# Altium footprint library MYLIB.PcbLib: 43 footprints (part 3 of 3)
Each footprint in its own frame and in the unit in brackets; x right, y up, seen from the top. Pads: shape width x height; smd on the part's side, far side on the other; paste and mask are expansions set on the pad; w line width, h text height; cw(c..) or ccw(c..) is an arc to the next point about the centre after c.
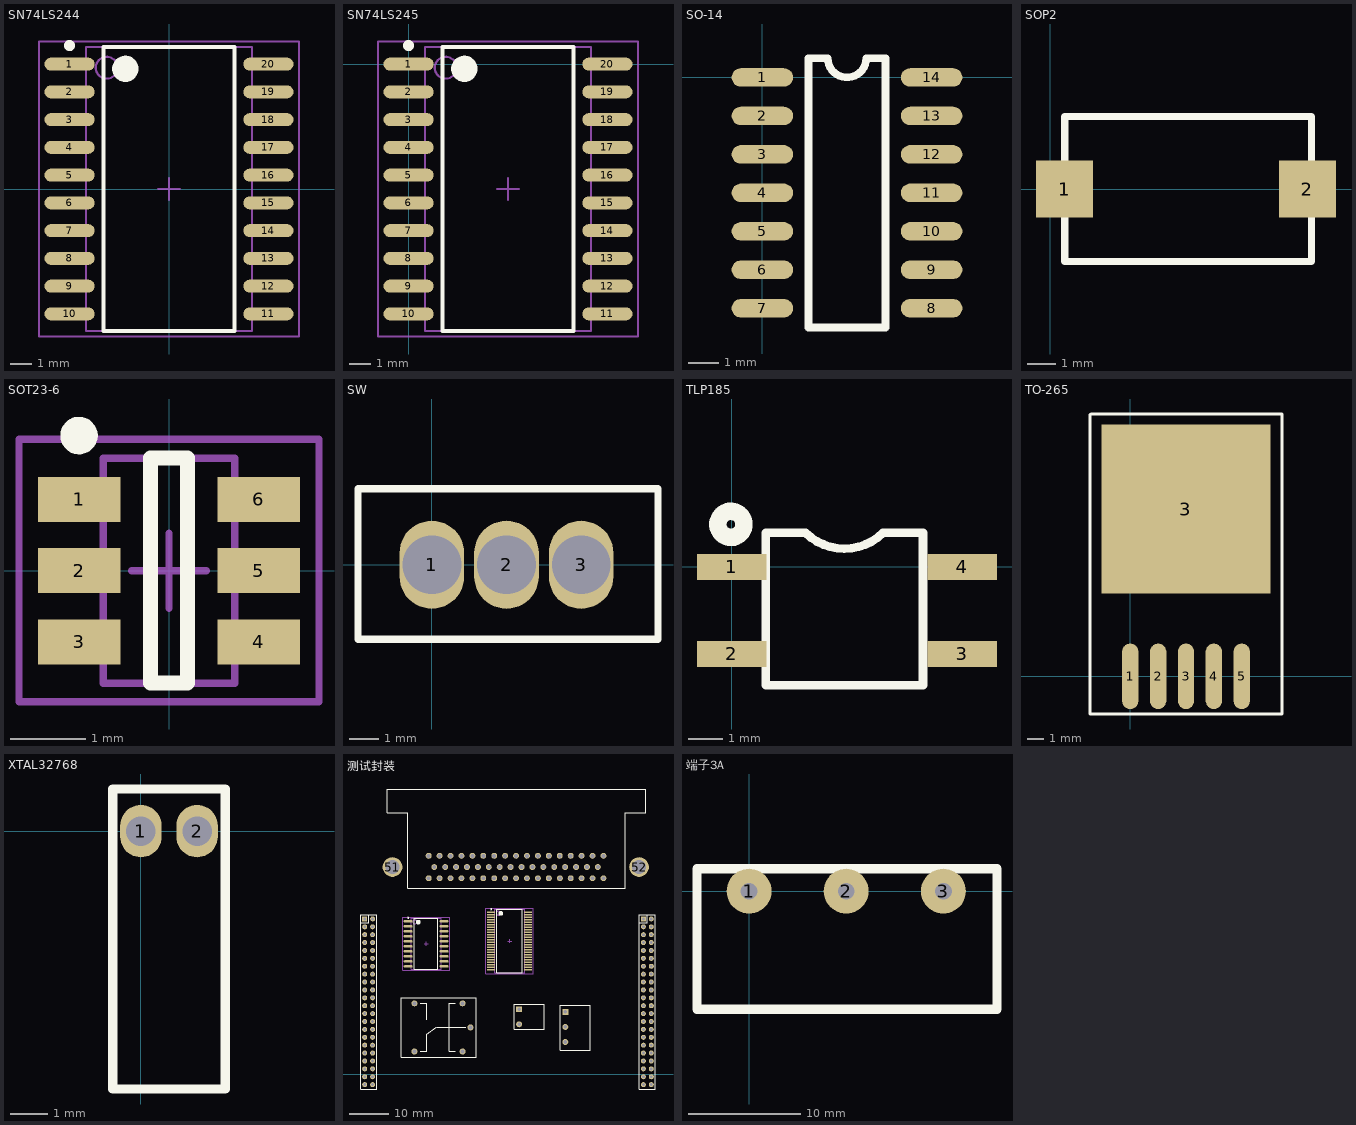
[diagram p2: the footprints below, top view; thin cyan lines are the x and y axes]

## SN74LS244 [mm]
height 2.65
pads (20):
  oval 2.3x0.6 smd: 1(-4.55,5.715) 2(-4.55,4.445) 3(-4.55,3.175) 4(-4.55,1.905) 5(-4.55,0.635) 6(-4.55,-0.635) 7(-4.55,-1.905) 8(-4.55,-3.175) 9(-4.55,-4.445) 10(-4.55,-5.715) 11(4.55,-5.715) 12(4.55,-4.445) 13(4.55,-3.175) 14(4.55,-1.905) 15(4.55,-0.635) 16(4.55,0.635) 17(4.55,1.905) 18(4.55,3.175) 19(4.55,4.445) 20(4.55,5.715)
Top Overlay:
  circle w0.25: c-4.55,6.565 r0.125
  circle w0.6: c-2,5.5 r0.3
  lines w0.2: -3,-6.5 -3,6.5 3,6.5 3,-6.5 -3,-6.5
Mechanical 13:
  circle w0.1: c-2.85,5.55 r0.5
  lines w0.1: -3.8,-6.5 -3.8,6.5 3.8,6.5 3.8,-6.5 -3.8,-6.5
Mechanical 15:
  lines w0.1: -0.5,0 0.5,0 ; 0,-0.5 0,0.5 ; -5.95,-6.75 -5.95,6.75 5.95,6.75 5.95,-6.75 -5.95,-6.75
3D body: height 2.65, standoff 0.1, extent -3.8,-6.5 3.8,6.5

## SN74LS245 [mm]
height 2
pads (20):
  oval 2.3x0.6 smd: 1(0,0) 2(0,-1.27) 3(0,-2.54) 4(0,-3.81) 5(0,-5.08) 6(0,-6.35) 7(0,-7.62) 8(0,-8.89) 9(0,-10.16) 10(0,-11.43) 11(9.1,-11.43) 12(9.1,-10.16) 13(9.1,-8.89) 14(9.1,-7.62) 15(9.1,-6.35) 16(9.1,-5.08) 17(9.1,-3.81) 18(9.1,-2.54) 19(9.1,-1.27) 20(9.1,0)
Top Overlay:
  circle w0.6: c2.55,-0.215 r0.3
  circle w0.25: c0,0.85 r0.125
  lines w0.2: 1.55,-12.215 7.55,-12.215 7.55,0.785 1.55,0.785 1.55,-12.215
Mechanical 13:
  circle w0.1: c1.7,-0.165 r0.5
  lines w0.1: 0.75,-12.215 8.35,-12.215 8.35,0.785 0.75,0.785 0.75,-12.215
Mechanical 15:
  lines w0.1: 4.05,-5.715 5.05,-5.715 ; 4.55,-6.215 4.55,-5.215 ; -1.4,-12.465 10.5,-12.465 10.5,1.035 -1.4,1.035 -1.4,-12.465
3D body: height 2.65, standoff 0.1, extent 0.75,-12.215 8.35,0.785

## SO-14 [mil]
pads (14):
  oval 80x24 smd: 1(0,0) 2(0,-50) 3(0,-100) 4(0,-150) 5(0,-200) 6(0,-250) 7(0,-300) 8(220,-300) 9(220,-250) 10(220,-200) 11(220,-150) 12(220,-100) 13(220,-50) 14(220,0)
Top Overlay:
  lines w10: 60,-325 60,25 85,25 ccw(c110,25) 135,25 160,25 160,-325 60,-325

## SOP2 [mm]
pads (2):
  rect 2x2 smd: 1(0.5,0) 2(9,0)
Top Overlay:
  lines w0.254: 0.508,-1.016 0.508,-2.54 9.144,-2.54 9.144,-1.016 ; 0.508,1.016 0.508,2.54 9.144,2.54 9.144,1.016

## SOT23-6 [mm] "Max4173"
height 1.45
pads (6):
  rect 1.1x0.6 smd: 1(-1.2,0.95) 2(-1.2,0) 3(-1.2,-0.95) 4(1.2,-0.95) 5(1.2,0) 6(1.2,0.95)
Top Overlay:
  circle w0.25: c-1.2,1.8 r0.125
  lines w0.2: -0.25,-1.5 0.25,-1.5 0.25,1.5 -0.25,1.5 -0.25,-1.5
Mechanical 13:
  lines w0.1: -0.875,-1.5 -0.875,1.5 0.875,1.5 0.875,-1.5 -0.875,-1.5
Mechanical 15:
  lines w0.1: -0.5,0 0.5,0 ; 0,-0.5 0,0.5 ; -2,-1.75 -2,1.75 2,1.75 2,-1.75 -2,-1.75
3D body: height 1.45, standoff 0, extent -0.875,-1.5 0.875,1.5

## SW [mm]
pads (3):
  oval 2.2x3 hole 2: 1(0,0) 2(2.54,0) 3(5.08,0)
Top Overlay:
  lines w0.254: -2.515,-2.54 -2.515,2.591 7.696,2.591 7.696,-2.54 -2.515,-2.54

## TLP185 [mil]
pads (4):
  rect 80x30 smd: 1(0,0) 2(0,-100) 3(265,-100) 4(265,0)
Top Overlay:
  circle w20: c-1,49 r15
  lines w10: 39,-136 39,39.37 85,39.37 ccw(c129.5,83.87) 174,39.37 220,39.37 220,-136 40,-136

## TO-265 [mm]
pads (6):
  oval 1x4 smd: 1(0,0) 2(1.7,0) 3(3.4,0) 4(5.1,0) 5(6.8,0)
  rect 10.3x10.3 smd: 3(3.4,10.199)
Top Overlay:
  lines w0.2: -2.45,-2.3 9.25,-2.3 9.25,16 -2.4,16 -2.45,15.95 -2.45,-2.3

## XTAL32768 [mil]
pads (2):
  oval 44.09x55.9 hole 31.49: 1(0,0) 2(60,0)
Top Overlay:
  lines w10: -30,-275 -30,45 90,45 90,-275 -30,-275

## 测试封装 [mm]
pads (218):
  rect 1.27x1.27 hole 0.711: 1(10.3,39.4) 45(80.912,39.4)
  oval 2.3x0.6 smd: 1(21.3,38.8) 2(21.3,37.53) 3(21.3,36.26) 4(21.3,34.99) 5(21.3,33.72) 6(21.3,32.45) 7(21.3,31.18) 8(21.3,29.91) 9(21.3,28.64) 10(21.3,27.37) 11(30.4,27.37) 12(30.4,28.64) 13(30.4,29.91) 14(30.4,31.18) 15(30.4,32.45) 16(30.4,33.72) 17(30.4,34.99) 18(30.4,36.26) 19(30.4,37.53) 20(30.4,38.8)
  round 1.5 hole 1: 1(26.5,49.7) 1(35.1,18) 2(29.269,49.7) 2(37.1,11.9) 3(32.037,49.7) 3(35.1,5.8) 4(22.9,18) 4(34.806,49.7) 5(22.9,5.8) 5(37.574,49.7) 6(40.343,49.7) 7(43.112,49.7) 8(45.88,49.7) 9(48.649,49.7) 10(51.417,49.7) 11(54.186,49.7) 12(56.955,49.7) 13(59.749,49.7) 14(62.492,49.7) 15(65.26,49.7) 16(68.029,49.7) 17(70.798,49.7) 18(27.922,52.545) 19(30.686,52.545) 20(33.449,52.545) 21(36.213,52.545) 22(38.976,52.545) 23(41.74,52.545) 24(44.504,52.545) 25(47.267,52.545) 26(50.031,52.545) 27(52.794,52.545) 28(55.558,52.545) 29(58.321,52.545) 30(61.085,52.545) 31(63.848,52.545) 32(66.612,52.545) 33(69.375,52.545) 34(26.5,55.39) 35(29.269,55.39) 36(32.037,55.39) 37(34.806,55.39) 38(37.574,55.39) 39(40.343,55.39) 40(43.112,55.39) 41(45.88,55.39) 42(48.649,55.39) 43(51.417,55.39) 44(54.186,55.39) 45(56.955,55.39) 46(59.723,55.39) 47(62.492,55.39) 48(65.26,55.39) 49(68.029,55.39) 50(70.798,55.39)
  oval 2.05x0.4 smd: 1(42.325,41.103) 2(42.325,40.468) 3(42.325,39.833) 4(42.325,39.198) 5(42.325,38.563) 6(42.325,37.928) 7(42.325,37.293) 8(42.325,36.658) 9(42.325,36.023) 10(42.325,35.388) 11(42.325,34.753) 12(42.325,34.118) 13(42.325,33.483) 14(42.325,32.848) 15(42.325,32.213) 16(42.325,31.578) 17(42.325,30.943) 18(42.325,30.308) 19(42.325,29.673) 20(42.325,29.038) 21(42.325,28.403) 22(42.325,27.768) 23(42.325,27.133) 24(42.325,26.498) 25(51.675,26.498) 26(51.675,27.133) 27(51.675,27.768) 28(51.675,28.403) 29(51.675,29.038) 30(51.675,29.673) 31(51.675,30.308) 32(51.675,30.943) 33(51.675,31.578) 34(51.675,32.213) 35(51.675,32.848) 36(51.675,33.483) 37(51.675,34.118) 38(51.675,34.753) 39(51.675,35.388) 40(51.675,36.023) 41(51.675,36.658) 42(51.675,37.293) 43(51.675,37.928) 44(51.675,38.563) 45(51.675,39.198) 46(51.675,39.833) 47(51.675,40.468) 48(51.675,41.103)
  rect 1.5x1.5 hole 0.9: 1(49.426,16.502) 1(61.137,15.827)
  round 1.27 hole 0.711: 2(12.3,39.4) 3(10.3,37.4) 4(12.3,37.4) 5(10.3,35.4) 6(12.3,35.4) 7(10.3,33.4) 8(12.3,33.4) 9(10.3,31.4) 10(12.3,31.4) 11(10.3,29.4) 12(12.3,29.4) 13(10.3,27.4) 14(12.3,27.4) 15(10.3,25.4) 16(12.3,25.4) 17(10.3,23.4) 18(12.3,23.4) 19(10.3,21.4) 20(12.3,21.4) 21(10.3,19.4) 22(12.3,19.4) 23(10.3,17.4) 24(12.3,17.4) 25(10.3,15.4) 26(12.3,15.4) 27(10.3,13.4) 28(12.3,13.4) 29(10.3,11.4) 30(12.3,11.4) 31(10.3,9.4) 32(12.3,9.4) 33(10.3,7.4) 34(12.3,7.4) 35(10.3,5.4) 36(12.3,5.4) 37(10.3,3.4) 38(12.3,3.4) 39(10.3,1.4) 40(12.3,1.4) 41(10.3,-0.6) 42(12.3,-0.6) 43(10.3,-2.6) 44(12.3,-2.6) 46(82.912,39.4) 47(80.912,37.4) 48(82.912,37.4) 49(80.912,35.4) 50(82.912,35.4) 51(80.912,33.4) 52(82.912,33.4) 53(80.912,31.4) 54(82.912,31.4) 55(80.912,29.4) 56(82.912,29.4) 57(80.912,27.4) 58(82.912,27.4) 59(80.912,25.4) 60(82.912,25.4) 61(80.912,23.4) 62(82.912,23.4) 63(80.912,21.4) 64(82.912,21.4) 65(80.912,19.4) 66(82.912,19.4) 67(80.912,17.4) 68(82.912,17.4) 69(80.912,15.4) 70(82.912,15.4) 71(80.912,13.4) 72(82.912,13.4) 73(80.912,11.4) 74(82.912,11.4) 75(80.912,9.4) 76(82.912,9.4) 77(80.912,7.4) 78(82.912,7.4) 79(80.912,5.4) 80(82.912,5.4) 81(80.912,3.4) 82(82.912,3.4) 83(80.912,1.4) 84(82.912,1.4) 85(80.912,-0.6) 86(82.912,-0.6) 87(80.912,-2.6) 88(82.912,-2.6)
  round 1.5 hole 0.9: 2(49.426,12.692) 2(61.137,12.017) 3(61.137,8.207)
  round 5 hole 3.5: 51(17.331,52.545) 52(79.815,52.545)
Top Overlay:
  circle w0.6: c23.85,38.585 r0.3
  circle w0.25: c21.3,39.65 r0.125
  circle w0.25: c42.325,41.853 r0.125
  circle w0.6: c44.75,40.8 r0.3
  lines w0.127: 15.959,66.32 15.959,72.32 81.491,72.32 81.491,66.32 76.284,66.32 76.284,47.16 21.166,47.16 21.166,66.32 15.967,66.32 ; 24.4,5.8 26,5.8 26,10 ; 24.4,18 26,18 26,13.8 ; 26,10.2 28.4,11.9 ; 28.6,11.9 35.9,11.9 ; 33.3,5.8 31.7,5.8 31.7,18 33.3,18 ; 19.5,4.4 38.5,4.4 38.5,19.4 19.5,19.4 19.5,4.4
  lines w0.2: 55.776,11.422 48.156,11.422 48.156,17.772 55.776,17.772 55.776,11.447 ; 22.85,26.585 28.85,26.585 28.85,39.585 22.85,39.585 22.85,26.585 ; 43.75,25.8 43.75,41.8 50.25,41.8 50.25,25.8 43.75,25.8 ; 59.867,6.15 59.867,17.58 67.487,17.58 67.487,6.15 59.867,6.15
  lines w0.203: 9.3,38.384 11.316,38.384 11.316,40.4 ; 13.297,40.391 13.297,-3.704 9.3,-3.704 9.3,40.4 13.3,40.4 ; 79.912,38.384 81.928,38.384 81.928,40.4 ; 83.909,40.391 83.909,-3.704 79.912,-3.704 79.912,40.4 83.912,40.4
Mechanical 13:
  circle w0.1: c23,38.635 r0.5
  circle w0.1: c44.155,40.85 r0.5
  lines w0.1: 22.05,26.585 29.65,26.585 29.65,39.585 22.05,39.585 22.05,26.585 ; 43.205,25.8 43.205,41.8 50.795,41.8 50.795,25.8 43.205,25.8
Mechanical 15:
  lines w0.1: 25.35,33.085 26.35,33.085 ; 25.85,32.585 25.85,33.585 ; 46.5,33.8 47.5,33.8 ; 47,33.3 47,34.3 ; 19.9,26.335 31.8,26.335 31.8,39.835 19.9,39.835 19.9,26.335 ; 41.025,25.55 41.025,42.05 52.975,42.05 52.975,25.55 41.025,25.55
3D body: height 2.65, standoff 0.1, extent 22.05,26.585 29.65,39.585
3D body: height 2.79, standoff 0.1, extent 43.205,25.8 50.795,41.8

## 端子3A [mm]
pads (3):
  round 4 hole 1.5: 1(0,0) 2(8.636,0) 3(17.272,0)
Top Overlay:
  lines w0.813: -4.63,-10.5 -4.63,2 22.04,2 22.04,-10.5 -4.63,-10.5